# Altium schematic symbol library LED.SchLib: 1 symbol
Pins are listed as number, name and electrical type; pins without a type are passive.

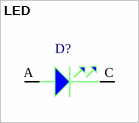
[diagram p0: symbol LED]

## LED
designator D?
LED YEL-GRN SGL 25mA SMT 0402
pins: A ANODE, C CATHODE